# EAGLE library part 691401710008 (library Terminal_Blocks_Connectors_rev15e)
WR-TBL Terminal block - serie 401 5,0mm - Spring clamp/Screw less - horizontal entry - 08p Code:Con_TBL_Screwless_5.00_6914017100xxB_691401710008 <http://katalog.we-online.de/media/images/eican/Con_TBL_Screwless_5.00_6914017100xxB_pf2.jpg> Details see: http://katalog.we-online.de/en/em/691_401_710_0xx/691_401_710_008B?m Created 2014-12-22, aslant tao 2014 (C) Würth Elektronik
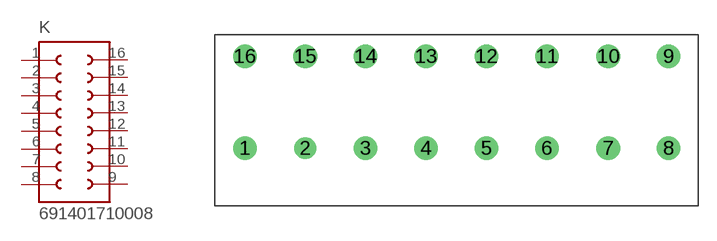
[diagram p237: symbol with the pads of 691401710008; footprint 691401710008]

Designator prefix K

## 691401710008  [691401710008]
1  1  pas
2  2  pas
3  3  pas
4  4  pas
5  5  pas
6  6  pas
7  7  pas
8  8  pas
9  9  pas
10  10  pas
11  11  pas
12  12  pas
13  13  pas
14  14  pas
15  15  pas
16  16  pas

## Footprint 691401710008 (pad centres in mm)
WR-TBL Serie 401 - 5.0mm Screwless Horizontal Entry - 2 mm2 Wires, 8 Pins
drill 1.3: 1 -19.92,-3.81; 3 -9.92,-3.81; 4 -4.92,-3.81; 5 0.08,-3.81; 6 5.08,-3.81; 7 10.16,-3.81; 8 15.16,-3.81; 9 15.16,3.81; 10 10.16,3.81; 11 5.08,3.81; 12 0.08,3.81; 13 -4.92,3.81; 14 -9.92,3.81; 15 -14.92,3.81; 16 -19.92,3.81
drill 1.2: 2 -14.92,-3.81